# Altium footprint library RJ45.PcbLib: 1 footprints
Each footprint in its own frame and in the unit in brackets; x right, y up, seen from the top. Pads: shape width x height; smd on the part's side, far side on the other; paste and mask are expansions set on the pad; w line width, h text height; cw(c..) or ccw(c..) is an arc to the next point about the centre after c.
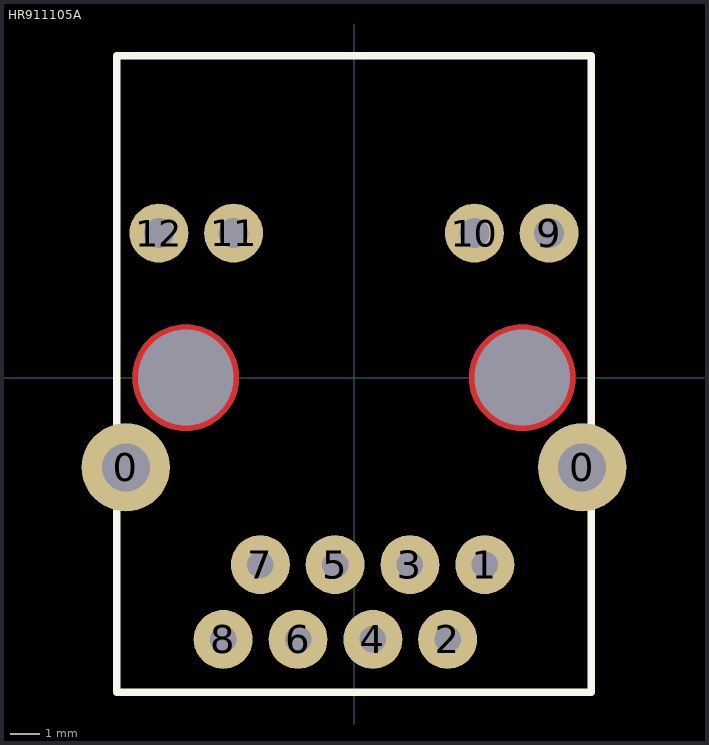
[diagram p0: the footprint, top view; thin cyan lines are the x and y axes]

## HR911105A [mm] "Single Port RJ45 Connector with Integrated Magnetics and LED for 10/100Base-T NIC Applications"
height 13.5
pads (16):
  round 3 hole 1.63: 0(-7.745,-3.05) 0(7.745,-3.05)
  round 2 hole 0.9: 1(4.44,-6.35) 2(3.18,-8.89) 3(1.9,-6.35) 4(0.64,-8.89) 5(-0.64,-6.35) 6(-1.9,-8.89) 7(-3.18,-6.35) 8(-4.44,-8.89)
  round 2 hole 1.02: 9(6.625,4.9) 10(4.085,4.9) 11(-4.085,4.9) 12(-6.625,4.9)
  round 0 hole 3.25: 13(-5.715,0) 13(5.715,0)
Top Layer:
  pour cut-out: 5.715,1.8 5.892,1.8 6.24,1.731 6.568,1.595 6.862,1.398 7.113,1.147 7.31,0.853 7.446,0.525 7.515,0.177 7.515,0 7.515,-0.177 7.446,-0.525 7.31,-0.853 7.113,-1.147 6.862,-1.398 6.568,-1.595 6.24,-1.731 5.892,-1.8 5.715,-1.8 5.538,-1.8 5.19,-1.731 4.862,-1.595 4.568,-1.398 4.317,-1.147 4.12,-0.853 3.984,-0.525 3.915,-0.177 3.915,0 3.915,0.177 3.984,0.525 4.12,0.853 4.317,1.147 4.568,1.398 4.862,1.595 5.19,1.731 5.538,1.8 5.715,1.8
  pour cut-out: -5.715,1.8 -5.538,1.8 -5.19,1.731 -4.862,1.595 -4.568,1.398 -4.317,1.147 -4.12,0.853 -3.984,0.525 -3.915,0.177 -3.915,0 -3.915,-0.177 -3.984,-0.525 -4.12,-0.853 -4.317,-1.147 -4.568,-1.398 -4.862,-1.595 -5.19,-1.731 -5.538,-1.8 -5.715,-1.8 -5.892,-1.8 -6.24,-1.731 -6.568,-1.595 -6.862,-1.398 -7.113,-1.147 -7.31,-0.853 -7.446,-0.525 -7.515,-0.177 -7.515,0 -7.515,0.177 -7.446,0.525 -7.31,0.853 -7.113,1.147 -6.862,1.398 -6.568,1.595 -6.24,1.731 -5.892,1.8 -5.715,1.8
  pour cut-out: -5.6,1.8
Bottom Layer:
  pour cut-out: 5.715,1.8 5.892,1.8 6.24,1.731 6.568,1.595 6.862,1.398 7.113,1.147 7.31,0.853 7.446,0.525 7.515,0.177 7.515,0 7.515,-0.177 7.446,-0.525 7.31,-0.853 7.113,-1.147 6.862,-1.398 6.568,-1.595 6.24,-1.731 5.892,-1.8 5.715,-1.8 5.538,-1.8 5.19,-1.731 4.862,-1.595 4.568,-1.398 4.317,-1.147 4.12,-0.853 3.984,-0.525 3.915,-0.177 3.915,0 3.915,0.177 3.984,0.525 4.12,0.853 4.317,1.147 4.568,1.398 4.862,1.595 5.19,1.731 5.538,1.8 5.715,1.8
  pour cut-out: -5.715,1.8 -5.538,1.8 -5.19,1.731 -4.862,1.595 -4.568,1.398 -4.317,1.147 -4.12,0.853 -3.984,0.525 -3.915,0.177 -3.915,0 -3.915,-0.177 -3.984,-0.525 -4.12,-0.853 -4.317,-1.147 -4.568,-1.398 -4.862,-1.595 -5.19,-1.731 -5.538,-1.8 -5.715,-1.8 -5.892,-1.8 -6.24,-1.731 -6.568,-1.595 -6.862,-1.398 -7.113,-1.147 -7.31,-0.853 -7.446,-0.525 -7.515,-0.177 -7.515,0 -7.515,0.177 -7.446,0.525 -7.31,0.853 -7.113,1.147 -6.862,1.398 -6.568,1.595 -6.24,1.731 -5.892,1.8 -5.715,1.8
Top Overlay:
  lines w0.254: -8.05,-10.68 8.05,-10.68 8.05,10.92 -8.05,10.92 -8.05,-10.68
3D body "User Library-RMS-001L-08A0-GY.STEP": height 2.3, standoff -14.5, extent -8,-10.38 8,10.92